# Altium schematic symbol library Inductor-FB.SchLib: 1 symbol
Pins are listed as number, name and electrical type; pins without a type are passive.

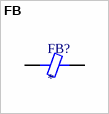
[diagram p0: symbol FB]

## FB
designator FB?
pins: 1, 2